# Altium schematic symbol library WR-WTB_3.96mm.SchLib: 13 symbols
Pins are listed as number, name and electrical type; pins without a type are passive.

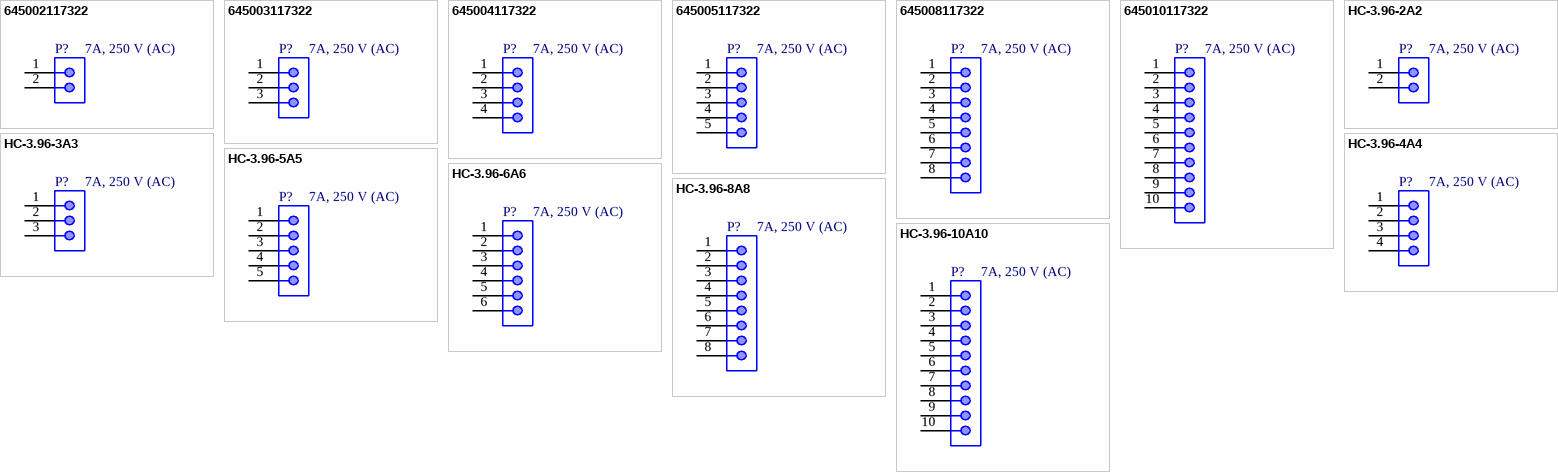
[diagram p0: symbols 645002117322 to HC-3.96-10A10]

## 645002117322
designator P?, comment 7A, 250 V (AC)
WR-WTB THT Male Right Angled Locking Header, pitch 3.96mm, 2p; Manufacturer: HCTL; Manufacturer Part Number: 645002117322; Pin Number: 2; Contact Resistance: 20mOhm; Withstanding Voltage: 1500VAC; Working Voltage: 250VAC; ComponentLink1Description: Datasheet; ComponentLink1URL: https://lcsc.com/datasheet/lcsc_datasheet_2409272202_HCTL-HC-3-96-2A2_C2979528.pdf; Pitch: 3.96mm; Packaging: Bag; Gender: Male; Type: Right Angled; Rated Current: 7A; Value: 7A, 250 V (AC); Supplier 1 URL: N/A; Supplier 2 URL: N/A; Supplier 3 URL: N/A; LCSC Part #: N/A; Mount: THT; Operating Temperature Max: + 105 C; Operating Temperature Min: - 40 C; Package / Case: 2; Supplier 1: Mouser; Supplier 1 Part Number: N/A; Supplier 2: Digi-Key; Supplier 2 Part Number: N/A; Supplier 3: thegioiic; Supplier 3 Part Number: N/A
footprint 645002117322
pins: 1, 2

## 645003117322
designator P?, comment 7A, 250 V (AC)
WR-WTB THT Male Right Angled Locking Header, pitch 3.96mm, 3p; Manufacturer: HCTL; Manufacturer Part Number: 645003117322; Pin Number: 3; Contact Resistance: 20mOhm; Withstanding Voltage: 1500VAC; Working Voltage: 250VAC; ComponentLink1Description: Datasheet; ComponentLink1URL: https://lcsc.com/datasheet/lcsc_datasheet_2409272202_HCTL-HC-3-96-2A2_C2979528.pdf; Pitch: 3.96mm; Packaging: Bag; Gender: Male; Type: Right Angled; Rated Current: 7A; Value: 7A, 250 V (AC); Supplier 1 URL: N/A; Supplier 2 URL: N/A; Supplier 3 URL: N/A; LCSC Part #: N/A; Mount: THT; Operating Temperature Max: + 105 C; Operating Temperature Min: - 40 C; Package / Case: 3; Supplier 1: Mouser; Supplier 1 Part Number: N/A; Supplier 2: Digi-Key; Supplier 2 Part Number: N/A; Supplier 3: thegioiic; Supplier 3 Part Number: N/A
footprint 645003117322
pins: 1, 2, 3

## 645004117322
designator P?, comment 7A, 250 V (AC)
WR-WTB THT Male Right Angled Locking Header, pitch 3.96mm, 4p; Manufacturer: HCTL; Manufacturer Part Number: 645004117322; Pin Number: 4; Contact Resistance: 20mOhm; Withstanding Voltage: 1500VAC; Working Voltage: 250VAC; ComponentLink1Description: Datasheet; ComponentLink1URL: https://lcsc.com/datasheet/lcsc_datasheet_2409272202_HCTL-HC-3-96-2A2_C2979528.pdf; Pitch: 3.96mm; Packaging: Bag; Gender: Male; Type: Right Angled; Rated Current: 7A; Value: 7A, 250 V (AC); Supplier 1 URL: N/A; Supplier 2 URL: N/A; Supplier 3 URL: N/A; LCSC Part #: N/A; Mount: THT; Operating Temperature Max: + 105 C; Operating Temperature Min: - 40 C; Package / Case: 4; Supplier 1: Mouser; Supplier 1 Part Number: N/A; Supplier 2: Digi-Key; Supplier 2 Part Number: N/A; Supplier 3: thegioiic; Supplier 3 Part Number: N/A
footprint 645004117322
pins: 1, 2, 3, 4

## 645005117322
designator P?, comment 7A, 250 V (AC)
WR-WTB THT Male Right Angled Locking Header, pitch 3.96mm, 5p; Manufacturer: HCTL; Manufacturer Part Number: 645005117322; Pin Number: 5; Contact Resistance: 20mOhm; Withstanding Voltage: 1500VAC; Working Voltage: 250VAC; ComponentLink1Description: Datasheet; ComponentLink1URL: https://lcsc.com/datasheet/lcsc_datasheet_2409272202_HCTL-HC-3-96-2A2_C2979528.pdf; Pitch: 3.96mm; Packaging: Bag; Gender: Male; Type: Right Angled; Rated Current: 7A; Value: 7A, 250 V (AC); Supplier 1 URL: N/A; Supplier 2 URL: N/A; Supplier 3 URL: N/A; LCSC Part #: N/A; Mount: THT; Operating Temperature Max: + 105 C; Operating Temperature Min: - 40 C; Package / Case: 5; Supplier 1: Mouser; Supplier 1 Part Number: N/A; Supplier 2: Digi-Key; Supplier 2 Part Number: N/A; Supplier 3: thegioiic; Supplier 3 Part Number: N/A
footprint 645005117322
pins: 1, 2, 3, 4, 5

## 645008117322
designator P?, comment 7A, 250 V (AC)
WR-WTB THT Male Right Angled Locking Header, pitch 3.96mm, 8p; Manufacturer: HCTL; Manufacturer Part Number: 645008117322; Pin Number: 8; Contact Resistance: 20mOhm; Withstanding Voltage: 1500VAC; Working Voltage: 250VAC; ComponentLink1Description: Datasheet; ComponentLink1URL: https://lcsc.com/datasheet/lcsc_datasheet_2409272202_HCTL-HC-3-96-2A2_C2979528.pdf; Pitch: 3.96mm; Packaging: Bag; Gender: Male; Type: Right Angled; Rated Current: 7A; Value: 7A, 250 V (AC); Supplier 1 URL: N/A; Supplier 2 URL: N/A; Supplier 3 URL: N/A; LCSC Part #: N/A; Mount: THT; Operating Temperature Max: + 105 C; Operating Temperature Min: - 40 C; Package / Case: 8; Supplier 1: Mouser; Supplier 1 Part Number: N/A; Supplier 2: Digi-Key; Supplier 2 Part Number: N/A; Supplier 3: thegioiic; Supplier 3 Part Number: N/A
footprint 645008117322
pins: 1, 2, 3, 4, 5, 6, 7, 8

## 645010117322
designator P?, comment 7A, 250 V (AC)
WR-WTB THT Male Right Angled Locking Header, pitch 3.96mm, 10p; Manufacturer: HCTL; Manufacturer Part Number: 645010117322; Pin Number: 10; Contact Resistance: 20mOhm; Withstanding Voltage: 1500VAC; Working Voltage: 250VAC; ComponentLink1Description: Datasheet; ComponentLink1URL: https://lcsc.com/datasheet/lcsc_datasheet_2409272202_HCTL-HC-3-96-2A2_C2979528.pdf; Pitch: 3.96mm; Packaging: Bag; Gender: Male; Type: Right Angled; Rated Current: 7A; Value: 7A, 250 V (AC); Supplier 1 URL: N/A; Supplier 2 URL: N/A; Supplier 3 URL: N/A; LCSC Part #: N/A; Mount: THT; Operating Temperature Max: + 105 C; Operating Temperature Min: - 40 C; Package / Case: 10; Supplier 1: Mouser; Supplier 1 Part Number: N/A; Supplier 2: Digi-Key; Supplier 2 Part Number: N/A; Supplier 3: thegioiic; Supplier 3 Part Number: N/A
footprint 645010117322
pins: 1, 2, 3, 4, 5, 6, 7, 8, 9, 10

## HC-3.96-2A2
designator P?, comment 7A, 250 V (AC)
WR-WTB THT Male Vertical Locking Header, pitch 3.96mm, 2p; Manufacturer: HCTL; Manufacturer Part Number: HC-3.96-2A2; Pin Number: 2; Contact Resistance: 20mOhm; Withstanding Voltage: 1500VAC; Working Voltage: 250VAC; ComponentLink1Description: Datasheet; ComponentLink1URL: https://lcsc.com/datasheet/lcsc_datasheet_2409272202_HCTL-HC-3-96-2A2_C2979528.pdf; Pitch: 3.96mm; Packaging: Bag; Gender: Male; Type: Vertical; Rated Current: 7A; Value: 7A, 250 V (AC); Supplier 1 URL: N/A; Supplier 2 URL: N/A; Supplier 3 URL: N/A; LCSC Part #: C2979528; Mount: THT; Operating Temperature Max: + 105 C; Operating Temperature Min: - 40 C; Package / Case: 2; Supplier 1: Mouser; Supplier 1 Part Number: N/A; Supplier 2: Digi-Key; Supplier 2 Part Number: N/A; Supplier 3: thegioiic; Supplier 3 Part Number: N/A
footprint 645002114822
pins: 1, 2

## HC-3.96-3A3
designator P?, comment 7A, 250 V (AC)
WR-WTB THT Male Vertical Locking Header, pitch 3.96mm, 3p; Manufacturer: HCTL; Manufacturer Part Number: HC-3.96-3A3; Pin Number: 3; Contact Resistance: 20mOhm; Withstanding Voltage: 1500VAC; Working Voltage: 250VAC; ComponentLink1Description: Datasheet; ComponentLink1URL: https://lcsc.com/datasheet/lcsc_datasheet_2409272202_HCTL-HC-3-96-2A2_C2979528.pdf; Pitch: 3.96mm; Packaging: Bag; Gender: Male; Type: Vertical; Rated Current: 7A; Value: 7A, 250 V (AC); Supplier 1 URL: N/A; Supplier 2 URL: N/A; Supplier 3 URL: N/A; LCSC Part #: C2979530; Mount: THT; Operating Temperature Max: + 105 C; Operating Temperature Min: - 40 C; Package / Case: 3; Supplier 1: Mouser; Supplier 1 Part Number: N/A; Supplier 2: Digi-Key; Supplier 2 Part Number: N/A; Supplier 3: thegioiic; Supplier 3 Part Number: N/A
footprint 645003114822
pins: 1, 2, 3

## HC-3.96-4A4
designator P?, comment 7A, 250 V (AC)
WR-WTB THT Male Vertical Locking Header, pitch 3.96mm, 4p; Manufacturer: HCTL; Manufacturer Part Number: HC-3.96-4A4; Pin Number: 4; Contact Resistance: 20mOhm; Withstanding Voltage: 1500VAC; Working Voltage: 250VAC; ComponentLink1Description: Datasheet; ComponentLink1URL: https://lcsc.com/datasheet/lcsc_datasheet_2409272202_HCTL-HC-3-96-2A2_C2979528.pdf; Pitch: 3.96mm; Packaging: Bag; Gender: Male; Type: Vertical; Rated Current: 7A; Value: 7A, 250 V (AC); Supplier 1 URL: N/A; Supplier 2 URL: N/A; Supplier 3 URL: N/A; LCSC Part #: C2979531; Mount: THT; Operating Temperature Max: + 105 C; Operating Temperature Min: - 40 C; Package / Case: 4; Supplier 1: Mouser; Supplier 1 Part Number: N/A; Supplier 2: Digi-Key; Supplier 2 Part Number: N/A; Supplier 3: thegioiic; Supplier 3 Part Number: N/A
footprint 645004114822
pins: 1, 2, 3, 4

## HC-3.96-5A5
designator P?, comment 7A, 250 V (AC)
WR-WTB THT Male Vertical Locking Header, pitch 3.96mm, 5p; Manufacturer: HCTL; Manufacturer Part Number: HC-3.96-5A5; Pin Number: 5; Contact Resistance: 20mOhm; Withstanding Voltage: 1500VAC; Working Voltage: 250VAC; ComponentLink1Description: Datasheet; ComponentLink1URL: https://lcsc.com/datasheet/lcsc_datasheet_2409272202_HCTL-HC-3-96-2A2_C2979528.pdf; Pitch: 3.96mm; Packaging: Bag; Gender: Male; Type: Vertical; Rated Current: 7A; Value: 7A, 250 V (AC); Supplier 1 URL: N/A; Supplier 2 URL: N/A; Supplier 3 URL: N/A; LCSC Part #: C2979532; Mount: THT; Operating Temperature Max: + 105 C; Operating Temperature Min: - 40 C; Package / Case: 5; Supplier 1: Mouser; Supplier 1 Part Number: N/A; Supplier 2: Digi-Key; Supplier 2 Part Number: N/A; Supplier 3: thegioiic; Supplier 3 Part Number: N/A
footprint 645005114822
pins: 1, 2, 3, 4, 5

## HC-3.96-6A6
designator P?, comment 7A, 250 V (AC)
WR-WTB THT Male Vertical Locking Header, pitch 3.96mm, 6p; Manufacturer: HCTL; Manufacturer Part Number: HC-3.96-6A6; Pin Number: 6; Contact Resistance: 20mOhm; Withstanding Voltage: 1500VAC; Working Voltage: 250VAC; ComponentLink1Description: Datasheet; ComponentLink1URL: https://lcsc.com/datasheet/lcsc_datasheet_2409272202_HCTL-HC-3-96-2A2_C2979528.pdf; Pitch: 3.96mm; Packaging: Bag; Gender: Male; Type: Vertical; Rated Current: 7A; Value: 7A, 250 V (AC); Supplier 1 URL: N/A; Supplier 2 URL: N/A; Supplier 3 URL: N/A; LCSC Part #: C2979533; Mount: THT; Operating Temperature Max: + 105 C; Operating Temperature Min: - 40 C; Package / Case: 6; Supplier 1: Mouser; Supplier 1 Part Number: N/A; Supplier 2: Digi-Key; Supplier 2 Part Number: N/A; Supplier 3: thegioiic; Supplier 3 Part Number: N/A
footprint 645006114822
pins: 1, 2, 3, 4, 5, 6

## HC-3.96-8A8
designator P?, comment 7A, 250 V (AC)
WR-WTB THT Male Vertical Locking Header, pitch 3.96mm, 8p; Manufacturer: HCTL; Manufacturer Part Number: HC-3.96-8A8; Pin Number: 8; Contact Resistance: 20mOhm; Withstanding Voltage: 1500VAC; Working Voltage: 250VAC; ComponentLink1Description: Datasheet; ComponentLink1URL: https://lcsc.com/datasheet/lcsc_datasheet_2409272202_HCTL-HC-3-96-2A2_C2979528.pdf; Pitch: 3.96mm; Packaging: Bag; Gender: Male; Type: Vertical; Rated Current: 7A; Value: 7A, 250 V (AC); Supplier 1 URL: N/A; Supplier 2 URL: N/A; Supplier 3 URL: N/A; LCSC Part #: C2979535; Mount: THT; Operating Temperature Max: + 105 C; Operating Temperature Min: - 40 C; Package / Case: 8; Supplier 1: Mouser; Supplier 1 Part Number: N/A; Supplier 2: Digi-Key; Supplier 2 Part Number: N/A; Supplier 3: thegioiic; Supplier 3 Part Number: N/A
footprint 645008114822
pins: 1, 2, 3, 4, 5, 6, 7, 8

## HC-3.96-10A10
designator P?, comment 7A, 250 V (AC)
WR-WTB THT Male Vertical Locking Header, pitch 3.96mm, 10p; Manufacturer: HCTL; Manufacturer Part Number: HC-3.96-10A10; Pin Number: 10; Contact Resistance: 20mOhm; Withstanding Voltage: 1500VAC; Working Voltage: 250VAC; ComponentLink1Description: Datasheet; ComponentLink1URL: https://lcsc.com/datasheet/lcsc_datasheet_2409272202_HCTL-HC-3-96-2A2_C2979528.pdf; Pitch: 3.96mm; Packaging: Bag; Gender: Male; Type: Vertical; Rated Current: 7A; Value: 7A, 250 V (AC); Supplier 1 URL: N/A; Supplier 2 URL: N/A; Supplier 3 URL: N/A; LCSC Part #: C5149845; Mount: THT; Operating Temperature Max: + 105 C; Operating Temperature Min: - 40 C; Package / Case: 10; Supplier 1: Mouser; Supplier 1 Part Number: N/A; Supplier 2: Digi-Key; Supplier 2 Part Number: N/A; Supplier 3: thegioiic; Supplier 3 Part Number: N/A
footprint 645010114822
pins: 1, 2, 3, 4, 5, 6, 7, 8, 9, 10